# Altium schematic symbol library TXS0104E.SCHLIB: 1 symbol
Pins are listed as number, name and electrical type; pins without a type are passive.

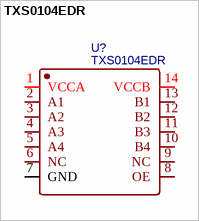
[diagram p0: symbol TXS0104EDR]

## TXS0104EDR
designator U?
BOM_Manufacturer: TI; Contributor: LCSC; BOM_Supplier: LCSC; BOM_Manufacturer Part: TXS0104EDR; BOM_Supplier Part: C79342; BOM_JLCPCB Part Class: Extended Part; spicePre: U; spiceSymbolName: TXS0104EDR
footprint SOIC-14_L8.7-W3.9-P1.27-LS6.0-BL
pins: 1 VCCA, 2 A1, 3 A2, 4 A3, 5 A4, 6 NC, 7 GND, 8 OE, 9 NC, 10 B4, 11 B3, 12 B2, 13 B1, 14 VCCB